# Altium schematic symbol library DPDT_Relay.SchLib: 8 symbols
Pins are listed as number, name and electrical type; pins without a type are passive.

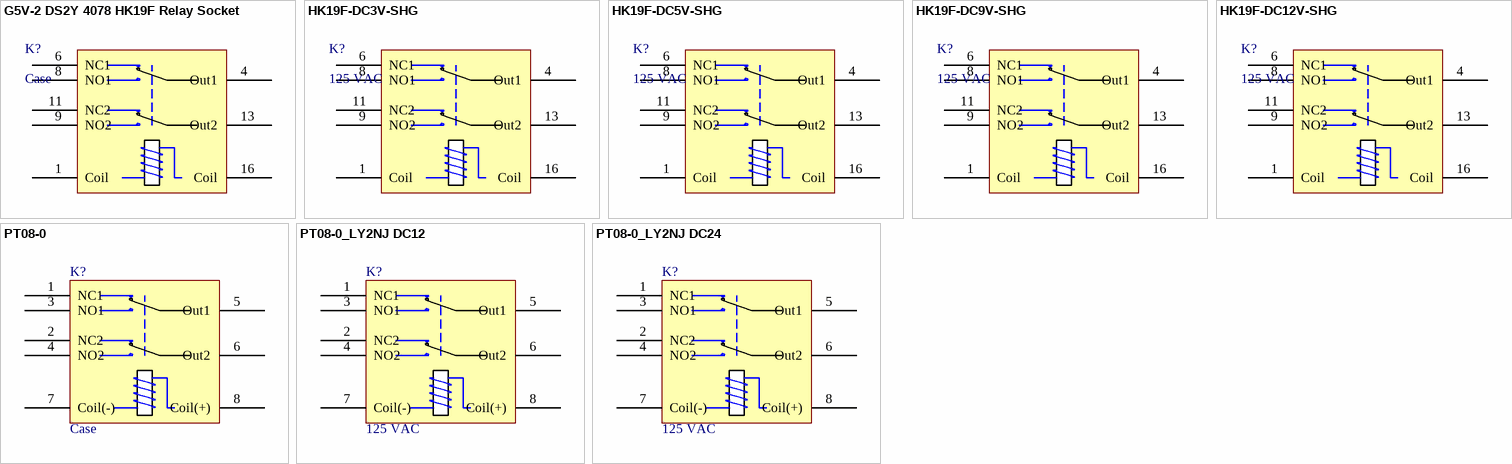
[diagram p0: symbols G5V-2 DS2Y 4078 HK19F Relay Socket to PT08-0_LY2NJ DC24]

## G5V-2 DS2Y 4078 HK19F Relay Socket
designator K?, comment Case
Associated Relay Series: G5V-2, DS2Y, 4078 HK19F; Manufacturer: OEM; Coil Current: N/A; Coil Resistance: N/A; Coil Voltage: N/A; ComponentLink1Description: Datasheet; ComponentLink1URL: N/A; Contact Current Rating: N/A; Power Consumption: N/A; Supplier 1 URL: N/A; Supplier 2 URL: N/A; Supplier 3 URL: https://www.thegioiic.com/de-relay-g5v-2-ds2y-4078-hk19f-8-chan; Switching Voltage: N/A; Value: Case; Manufacturer Part Number: N/A; Mount: THT; Operating Temperature Max: + 85 C; Operating Temperature Min: - 40 C; Package / Case: N/A; Packaging: N/A; Supplier 1: Mouser; Supplier 1 Part Number: N/A; Supplier 2: Digi-Key; Supplier 2 Part Number: N/A; Supplier 3: thegioiic; Supplier 3 Part Number: N/A
footprint G5V-2 DS2Y 4078 HK19F Relay Socket
pins: 1 Coil "-", 4 Out1, 6 NC1, 8 NO1, 9 NO2, 11 NC2, 13 Out2, 16 Coil "+"

## HK19F-DC3V-SHG
designator K?, comment 125 VAC
Coil Voltage: 3 VDC; Contact Current Rating: 1A; Switching Voltage Max: 125 VAC; Manufacturer: HUIKE; Manufacturer Part Number: HK19F-DC3V-SHG; Coil Voltage: 3 VDC; Coil Current: N/A; Coil Resistance: N/A; ComponentLink1Description: Datasheet; ComponentLink1URL: https://components101.com/sites/default/files/component_datasheet/HK19F-12V%20DPDT%20Relay%20Datasheet.pdf; Power Consumption: N/A; Supplier 1 URL: N/A; Supplier 2 URL: N/A; Supplier 3 URL: https://www.thegioiic.com/hk19f-dc3v-shg-ro-le-3vdc-1a-spdt-8-chan; Switching Voltage: 125 VAC; Value: 125 VAC; Mount: THT; Operating Temperature Max: + 85 C; Operating Temperature Min: - 40 C; Package / Case: N/A; Packaging: N/A; Supplier 1: Mouser; Supplier 1 Part Number: N/A; Supplier 2: Digi-Key; Supplier 2 Part Number: N/A; Supplier 3: thegioiic; Supplier 3 Part Number: HK19F-DC3V-SHG
footprint HK19F
pins: 1 Coil "-", 4 Out1, 6 NC1, 8 NO1, 9 NO2, 11 NC2, 13 Out2, 16 Coil "+"

## HK19F-DC5V-SHG
designator K?, comment 125 VAC
Coil Voltage: 5 VDC; Contact Current Rating:  1A; Switching Voltage Max: 125 VAC; Manufacturer: HUIKE; Manufacturer Part Number: HK19F-DC5V-SHG; Coil Voltage: 5 VDC; Contact Current Rating: 1A; Coil Current: N/A; Coil Resistance: N/A; ComponentLink1Description: Datasheet; ComponentLink1URL: https://components101.com/sites/default/files/component_datasheet/HK19F-12V%20DPDT%20Relay%20Datasheet.pdf; Power Consumption: N/A; Supplier 1 URL: N/A; Supplier 2 URL: N/A; Supplier 3 URL: https://www.thegioiic.com/hk19f-dc5v-shg-ro-le-5vdc-1a-spdt-8-chan; Switching Voltage: 125 VAC; Value: 125 VAC; Mount: THT; Operating Temperature Max: + 85 C; Operating Temperature Min: - 40 C; Package / Case: N/A; Packaging: N/A; Supplier 1: Mouser; Supplier 1 Part Number: N/A; Supplier 2: Digi-Key; Supplier 2 Part Number: N/A; Supplier 3: thegioiic; Supplier 3 Part Number: HK19F-DC5V-SHG
footprint HK19F
pins: 1 Coil "-", 4 Out1, 6 NC1, 8 NO1, 9 NO2, 11 NC2, 13 Out2, 16 Coil "+"

## HK19F-DC9V-SHG
designator K?, comment 125 VAC
Coil Voltage: 9 VDC; Contact Current Rating:  1A; Switching Voltage Max: 125 VAC; Manufacturer: HUIKE; Manufacturer Part Number: HK19F-DC9V-SHG; Coil Voltage: 9 VDC; Contact Current Rating: 1A; Coil Current: N/A; Coil Resistance: N/A; ComponentLink1Description: Datasheet; ComponentLink1URL: https://components101.com/sites/default/files/component_datasheet/HK19F-12V%20DPDT%20Relay%20Datasheet.pdf; Power Consumption: N/A; Supplier 1 URL: N/A; Supplier 2 URL: N/A; Supplier 3 URL: https://www.thegioiic.com/hk19f-dc9v-shg-ro-le-9vdc-1a-spdt-8-chan; Switching Voltage: 125 VAC; Value: 125 VAC; Mount: THT; Operating Temperature Max: + 85 C; Operating Temperature Min: - 40 C; Package / Case: N/A; Packaging: N/A; Supplier 1: Mouser; Supplier 1 Part Number: N/A; Supplier 2: Digi-Key; Supplier 2 Part Number: N/A; Supplier 3: thegioiic; Supplier 3 Part Number: HK19F-DC9V-SHG
footprint HK19F
pins: 1 Coil "-", 4 Out1, 6 NC1, 8 NO1, 9 NO2, 11 NC2, 13 Out2, 16 Coil "+"

## HK19F-DC12V-SHG
designator K?, comment 125 VAC
Coil Voltage: 12 VDC; Contact Current Rating:  1A; Switching Voltage Max: 125 VAC; Manufacturer: HUIKE; Manufacturer Part Number: HK19F-DC12V-SHG; Coil Voltage: 12 VDC; Contact Current Rating: 1A; Coil Current: N/A; Coil Resistance: N/A; ComponentLink1Description: Datasheet; ComponentLink1URL: https://components101.com/sites/default/files/component_datasheet/HK19F-12V%20DPDT%20Relay%20Datasheet.pdf; Power Consumption: N/A; Supplier 1 URL: N/A; Supplier 2 URL: N/A; Supplier 3 URL: https://www.thegioiic.com/hk19f-dc12v-shg-ro-le-12vdc-1a-spdt-8-chan; Switching Voltage: 125 VAC; Value: 125 VAC; Mount: THT; Operating Temperature Max: + 85 C; Operating Temperature Min: - 40 C; Package / Case: N/A; Packaging: N/A; Supplier 1: Mouser; Supplier 1 Part Number: N/A; Supplier 2: Digi-Key; Supplier 2 Part Number: N/A; Supplier 3: thegioiic; Supplier 3 Part Number: HK19F-DC12V-SHG
footprint HK19F
pins: 1 Coil "-", 4 Out1, 6 NC1, 8 NO1, 9 NO2, 11 NC2, 13 Out2, 16 Coil "+"

## PT08-0
designator K?, comment Case
Suitable for LY2N; Manufacturer: OEM; Manufacturer Part Number: 13F-2Z-A2; Coil Current: N/A; Coil Resistance: N/A; Coil Voltage: N/A; ComponentLink1Description: Datasheet; ComponentLink1URL: https://assets.omron.com/m/3e54678f7feeb2fc/original/LY-Electromechanical-Relay-Datasheet.pdf; Contact Current Rating: N/A; Power Consumption: N/A; Supplier 1 URL: https://www.mouser.com/ProductDetail/Omron-Automation-and-Safety/PT08-0?qs=0w99tykdtPI4S7EgdqDgpA%3D%3D; Supplier 2 URL: https://www.digikey.com/en/products/detail/omron-automation-and-safety/PT08-0/126876; Supplier 3 URL: https://www.thegioiic.com/13f-2z-a2-de-relay-ly2n-j-8-chan-han-pcb; Switching Voltage: N/A; Value: Case; Mount: THT; Operating Temperature Max: + 85 C; Operating Temperature Min: - 40 C; Package / Case: N/A; Packaging: N/A; Supplier 1: Mouser; Supplier 1 Part Number: 653-PT08-0; Supplier 2: Digi-Key; Supplier 2 Part Number: Z792-ND; Supplier 3: thegioiic; Supplier 3 Part Number: 13F-2Z-A2
footprint PT08-0
pins: 1 NC1, 2 NC2, 3 NO1, 4 NO2, 5 Out1, 6 Out2, 7 Coil(-) "-", 8 Coil(+) "+"

## PT08-0_LY2NJ DC12
designator K?, comment 125 VAC
Coil Voltage: 12 VDC; Power Consumption: 900 mW; Manufacturer: OEM; Manufacturer Part Number: HH62P LY2NJ; Coil Current: 75 mA; Coil Resistance: 160 Ohms; Coil Voltage: 12 VDC; Power Consumption: 900 mW; Switching Voltage: 250 VAC, 125 VDC; ComponentLink1Description: Datasheet; ComponentLink1URL: https://assets.omron.com/m/3e54678f7feeb2fc/original/LY-Electromechanical-Relay-Datasheet.pdf; Contact Current Rating: N/A; Supplier 1 URL: https://www.mouser.com/ProductDetail/Omron-Automation-and-Safety/LY2N-DC12?qs=DHrpRJakPMOsYy5oky1q7w%3D%3D; Supplier 2 URL: https://www.digikey.com/en/products/detail/omron-automation-and-safety/LY2N-DC12/369492; Supplier 3 URL: https://www.thegioiic.com/hh62p-ly2nj-ro-le-12vdc-10a-dpdt-8-chan; Value: 125 VAC; Mount: THT; Operating Temperature Max: + 85 C; Operating Temperature Min: - 40 C; Package / Case: N/A; Packaging: N/A; Supplier 1: Mouser; Supplier 1 Part Number: 653-LY2NDC12; Supplier 2: Digi-Key; Supplier 2 Part Number: Z2603-ND; Supplier 3: thegioiic; Supplier 3 Part Number: HH62P LY2NJ
footprint PT08-0_LY2NJ
footprint PT08-0_LY2NJ - Dew u no de wey
pins: 1 NC1, 2 NC2, 3 NO1, 4 NO2, 5 Out1, 6 Out2, 7 Coil(-) "-", 8 Coil(+) "+"

## PT08-0_LY2NJ DC24
designator K?, comment 125 VAC
Coil Voltage: 24 VDC; Power Consumption: 900 mW; Manufacturer: OEM; Manufacturer Part Number: LY2NJ DC24; Coil Current: 36.9 mA; Coil Resistance: 650 Ohms; Coil Voltage: 24 VDC; Power Consumption: 900 mW; Switching Voltage: 250 VAC, 125 VDC; ComponentLink1Description: Datasheet; ComponentLink1URL: https://assets.omron.com/m/3e54678f7feeb2fc/original/LY-Electromechanical-Relay-Datasheet.pdf; Contact Current Rating: N/A; Supplier 1 URL: https://www.mouser.com/ProductDetail/Omron-Automation-and-Safety/LY2N-D2-DC24?qs=kyocjfxn8IrbKDYptT7zlA%3D%3D; Supplier 2 URL: https://www.digikey.com/en/products/detail/omron-automation-and-safety/LY2N-DC24/369493; Supplier 3 URL: https://www.thegioiic.com/ly2nj-dc24-ro-le-24vdc-10a-dpdt-8-chan; Value: 125 VAC; Mount: THT; Operating Temperature Max: + 85 C; Operating Temperature Min: - 40 C; Package / Case: N/A; Packaging: N/A; Supplier 1: Mouser; Supplier 1 Part Number: 653-LY2N-D2-DC24; Supplier 2: Digi-Key; Supplier 2 Part Number: Z2604-ND; Supplier 3: thegioiic; Supplier 3 Part Number: LY2NJ DC24
footprint PT08-0_LY2NJ
footprint PT08-0_LY2NJ - HeheBoyI'mPepe
pins: 1 NC1, 2 NC2, 3 NO1, 4 NO2, 5 Out1, 6 Out2, 7 Coil(-) "-", 8 Coil(+) "+"